# Altium schematic symbol library AI-2331-TWT-R.SchLib: 1 symbol
Pins are listed as number, name and electrical type; pins without a type are passive.

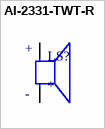
[diagram p0: symbol AI-2331-TWT-R]

## AI-2331-TWT-R
designator LS?
PIEZO AUDIO INDICATOR 12 VDC 15MA 85DBA; MF: PUI Audio; MP: AI-2331-TWT-R; Value: *; Purchase-URL: https://pricing.snapeda.com/search/part/AI-2331-TWT-R/?ref=eda; Price: None; Check_prices: https://www.snapeda.com/parts/AI-2331-TWT-R/PUI%20Audio/view-part/295282/?ref=eda; SnapEDA_Link: https://www.snapeda.com/parts/AI-2331-TWT-R/PUI%20Audio/view-part/295282/?ref=snap; Availability: In Stock; Package: None
footprint XDCR_AI-2331-TWT-R
pins: N NEG, P POS
text: +; -